# Altium schematic symbol library CG0402MLU-12G.SchLib: 1 symbol
Pins are listed as number, name and electrical type; pins without a type are passive.

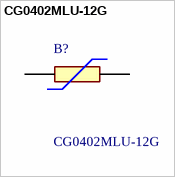
[diagram p0: symbol CG0402MLU-12G]

## CG0402MLU-12G
designator B?
ESD Suppressors / TVS Diodes CHIP GUARD 12VOLT; Manufacturer_Name: Bourns; Geometry.Height: 0.41mm; Mouser Part Number: 652-CG0402MLU-12G; Mouser Price/Stock: https://www.mouser.co.uk/ProductDetail/Bourns/CG0402MLU-12G?qs=m8myXnDJXpUNz33UIHxVhA%3D%3D; Manufacturer_Part_Number: CG0402MLU-12G; Datasheet Link: https://bourns.com/docs/product-datasheets/mlu.pdf?sfvrsn=1940d498_27
footprint VARC1005X41N
pins: 1, 2